# Altium footprint library QFN65P400X400X100-17N.PcbLib: 1 footprints
Each footprint in its own frame and in the unit in brackets; x right, y up, seen from the top. Pads: shape width x height; smd on the part's side, far side on the other; paste and mask are expansions set on the pad; w line width, h text height; cw(c..) or ccw(c..) is an arc to the next point about the centre after c.
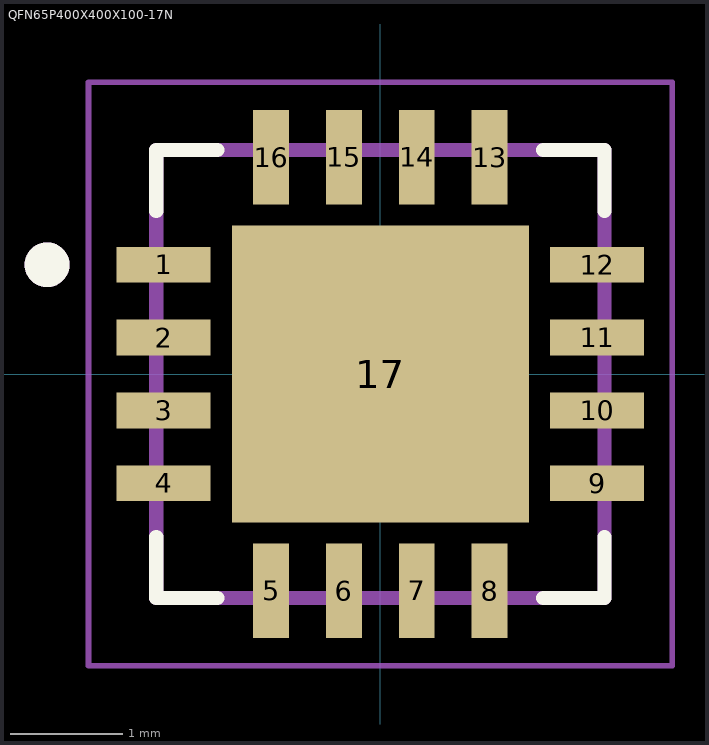
[diagram p0: the footprint, top view; thin cyan lines are the x and y axes]

## QFN65P400X400X100-17N [mm] "Quad rail-to-rail op amp"
height 1
pads (17):
  rect 0.84x0.32 smd: 1(-1.935,0.975) 2(-1.935,0.325) 3(-1.935,-0.325) 4(-1.935,-0.975) 9(1.935,-0.975) 10(1.935,-0.325) 11(1.935,0.325) 12(1.935,0.975)
  rect 0.32x0.84 smd: 5(-0.975,-1.935) 6(-0.325,-1.935) 7(0.325,-1.935) 8(0.975,-1.935) 13(0.975,1.935) 14(0.325,1.935) 15(-0.325,1.935) 16(-0.975,1.935)
  rect 2.65x2.65 smd: 17(0,0)
Top Overlay:
  circle w0.2: c-2.975,0.975 r0.1
  lines w0.127: -2,-1.455 -2,-2 -1.455,-2 ; -2,1.455 -2,2 -1.455,2 ; 1.455,-2 2,-2 2,-1.455 ; 1.455,2 2,2 2,1.455
Top Paste:
  region: -0.84,0.84 0.84,0.84 0.84,-0.84 -0.84,-0.84
Mechanical 1:
  lines w0.152: 0,-0.254 0,0.254
Mechanical 13:
  circle w0.2: c-2.975,0.975 r0.1
  circle w0.2: c-2.975,0.975 r0.1
  lines w0.127: -2,-2 2,-2 ; -2,-2 -2,2 ; -2,-2 2,-2 ; -2,-2 -2,2 ; -2,2 2,2 ; -2,2 2,2 ; 2,-2 2,2 ; 2,-2 2,2
Mechanical 15:
  lines w0.05: -2.605,-2.605 2.605,-2.605 2.605,2.605 -2.605,2.605 -2.605,-2.605
  lines w0.152: -0.254,0 0.254,0 ; 0,-0.254 0,0.254
3D body: height 1, standoff 0, extent -2.032,-2.032 2.032,2.032